# Altium schematic symbol library BALUN.SchLib: 1 symbol
Pins are listed as number, name and electrical type; pins without a type are passive.

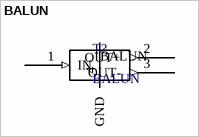
[diagram p0: symbol BALUN]

## BALUN
designator T?
RF balun symbol
pins: 1 IN (in), 2 OUT+ (out), 3 OUT- (out), 4 GND (power)